# Altium schematic symbol library ic.SchLib: 21 symbols
Pins are listed as number, name and electrical type; pins without a type are passive.

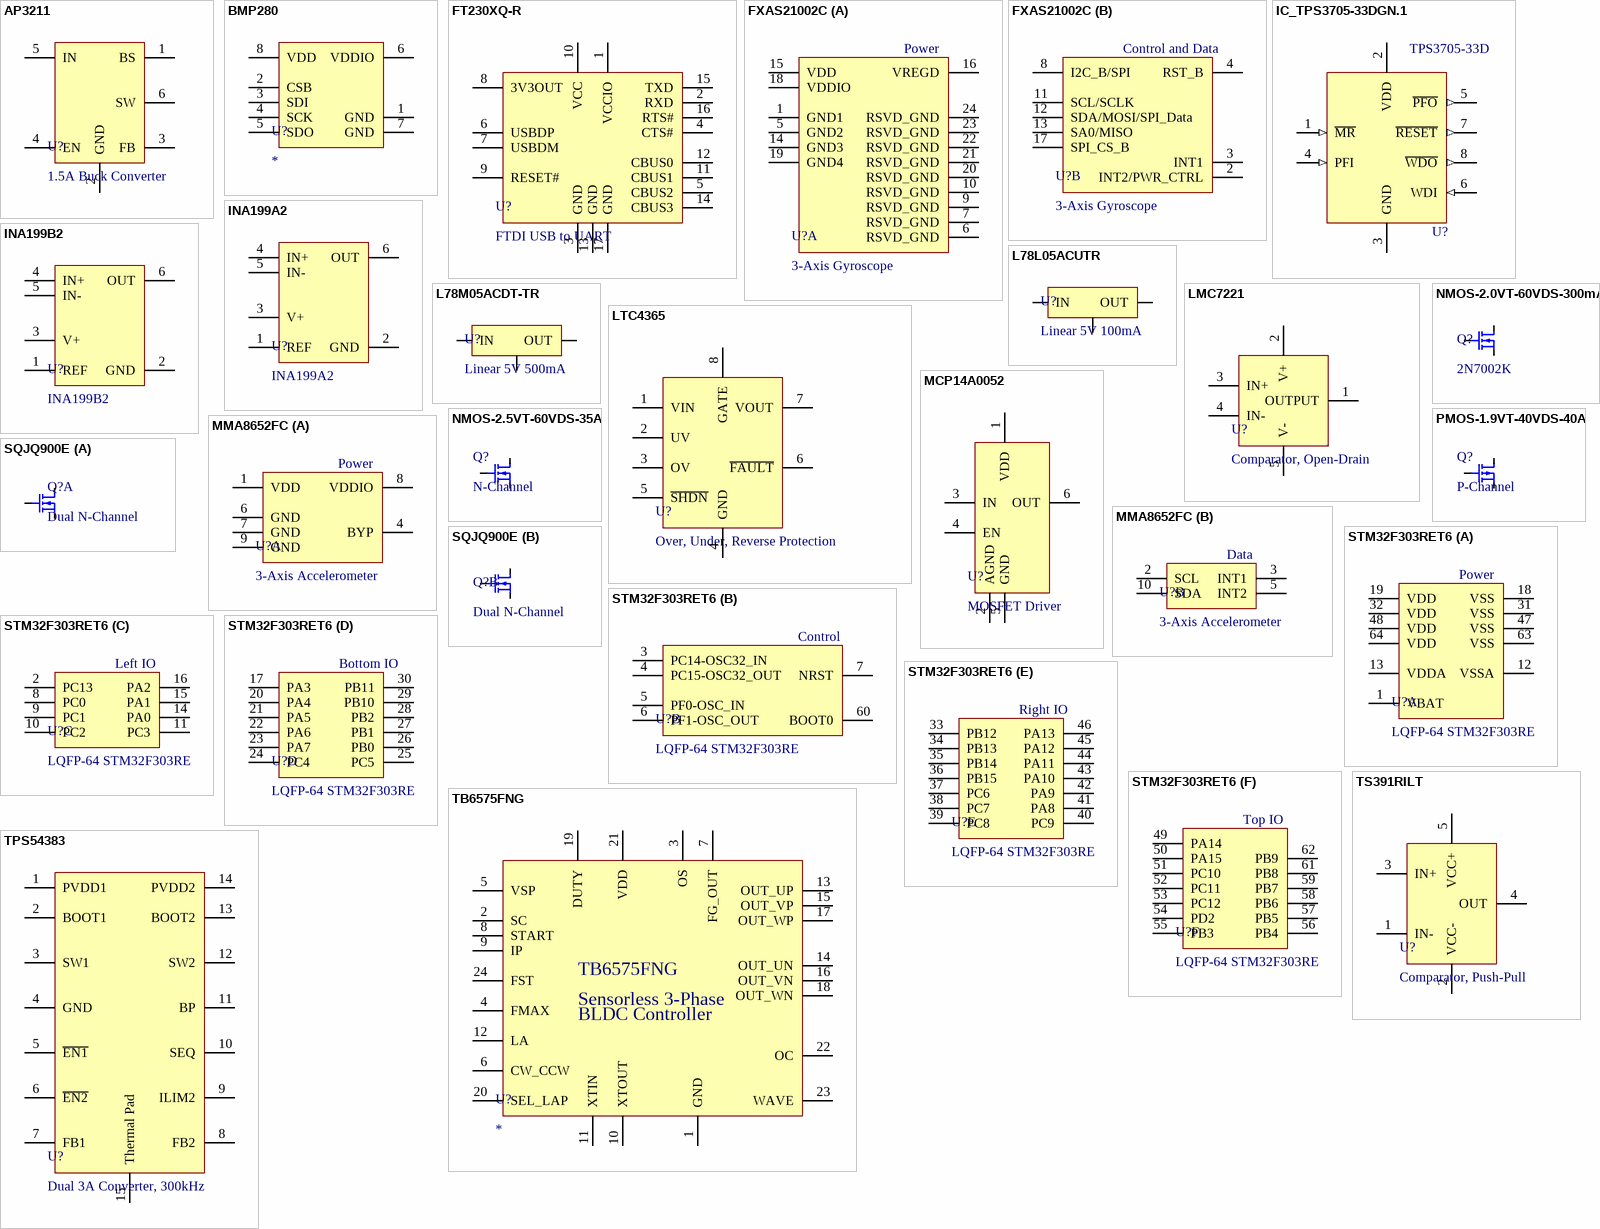
[diagram p0: symbols AP3211 to TS391RILT]

## AP3211
designator U?, comment 1.5A Buck Converter
1.4 MHz, 1.5A DC-DC Buck Converter; Supplier 1: Digi-Key; Supplier Part Number 1: AP3211KTR-G1DIDKR-ND
footprint SOT-23-6 (SOT23, 6-Leads, Body 2.90x2.70mm, Pitch 1.00mm, IPC Medium Density)
pins: 1 BS, 2 GND, 3 FB, 4 EN, 5 IN, 6 SW

## BMP280
designator U?
Digital Pressure Sensor; Supplier 1: Digi-Key; Supplier Part Number 1: 828-1064-6-ND; ComponentLink1Description: Datasheet; ComponentLink1URL: https://ae-bst.resource.bosch.com/media/_tech/media/datasheets/BST-BMP280-DS001-19.pdf
footprint LGA8 (Digital Pressure Sensor)
pins: 1 GND, 2 CSB, 3 SDI, 4 SCK, 5 SDO, 6 VDDIO, 7 GND, 8 VDD

## FT230XQ-R
designator U?, comment FTDI USB to UART
Supplier 1: Digi-Key; Supplier Part Number 1: 768-1130-6-ND; ComponentLink1Description: Datasheet; ComponentLink1URL: https://www.ftdichip.com/Support/Documents/DataSheets/ICs/DS_FT230X.pdf
footprint QFN16-0.65 (QFN, 16-Leads, Body 4.00x4.00mm, Pitch 0.65mm, Thermal Pad 2.08x2.08mm, IPC Medium Density)
pins: 1 VCCIO, 2 RXD, 3 GND, 4 CTS#, 5 CBUS2, 6 USBDP, 7 USBDM, 8 3V3OUT, 9 RESET#, 10 VCC, 11 CBUS1, 12 CBUS0, 13 GND, 14 CBUS3, 15 TXD, 16 RTS#, 17 GND

## FXAS21002C
designator U?, comment 3-Axis Gyroscope
3-Axis Digital Angular Rate Gyroscope; Supplier 1: Digi-Key; Supplier Part Number 1: FXAS21002CQR1CT-ND; ComponentLink1Description: Datasheet; ComponentLink1URL: http://cache.freescale.com/files/sensors/doc/data_sheet/FXAS21002.pdf
footprint QFN24 (QFN, 24-Leads, Body 4.00x4.00mm, Pitch 0.50mm, IPC Medium Density)
part A pins: 1 GND1, 5 GND2, 6 RSVD_GND, 7 RSVD_GND, 9 RSVD_GND, 10 RSVD_GND, 14 GND3, 15 VDD, 16 VREGD, 18 VDDIO, 19 GND4, 20 RSVD_GND, 21 RSVD_GND, 22 RSVD_GND, 23 RSVD_GND, 24 RSVD_GND
part B pins: 2 INT2/PWR_CTRL, 3 INT1, 4 RST_B, 8 I2C_B/SPI, 11 SCL/SCLK, 12 SDA/MOSI/SPI_Data, 13 SA0/MISO, 17 SPI_CS_B
part A text: Power
part B text: Control and Data

## IC_TPS3705-33DGN.1
designator U?  Manufacturer Part Number: TPS3705-33D
IC 2.93V PROCESSOR MONITOR 8MSOP; Manufacturer: Texas Instruments; Number of Voltages Monitored: 1; Output: Push-Pull, Totem Pole; Reset: Active Low; Reset Timeout: 140 ms Minimum; Supplier 1: Digi-Key; RoHS: RoHS Compliant; Category: Integrated Circuits (ICs); Stock 1: 1844; Pricing 1: 1=2.04, 10=1.831, 100=1.4718, 500=1.20926, 1000=1.00195, 2500=0.93285, 5000=0.8983, 10000=0.86375 (USD); Packaging: Tube; Part Status: Active; Type: Simple Reset/Power-On Reset; Voltage - Threshold: 2.93V; Operating Temperature: -40°C ~ 85°C (TA); Mounting Type: Surface Mount; Package / Case: 8-SOIC (0.154", 3.90mm Width); Supplier Device Package: 8-SOIC; ComponentLink1URL: http://www.ti.com/lit/ds/symlink/tps3705.pdf; ComponentLink1Description: Datasheet; Supplier Part Number 1: 296-2623-5-ND
footprint 8SOIC (SOIC, 8-Leads, Body 4.90x3.90mm, Pitch 1.27mm, IPC Medium Density)
pins: 1 ~{MR} (in), 2 VDD, 3 GND, 4 PFI (in), 5 ~{PFO} (out), 6 WDI (in), 7 ~{RESET} (out), 8 ~{WDO} (out)

## INA199A2
designator U?
50 V/V, Current-Shunt Monitor; ComponentLink1Description: Datasheet; ComponentLink1URL: http://www.ti.com/lit/ds/symlink/ina199.pdf; Supplier 1: Digi-Key; Supplier Part Number 1: 296-27329-6-ND
footprint SC70 (SOT23, 6-Leads, Body 2.00x2.10mm, Pitch 0.65mm, IPC Medium Density)
pins: 1 REF, 2 GND, 3 V+, 4 IN+, 5 IN-, 6 OUT

## INA199B2
designator U?
100 V/V, Current-Shunt Monitor; ComponentLink1Description: Datasheet; ComponentLink1URL: http://www.ti.com/lit/ds/symlink/ina199.pdf; Supplier 1: Digi-Key; Supplier Part Number 1: INA199B2DCKR-ND
footprint SC70 (SOT23, 6-Leads, Body 2.00x2.10mm, Pitch 0.65mm, IPC Medium Density)
pins: 1 REF, 2 GND, 3 V+, 4 IN+, 5 IN-, 6 OUT

## L78L05ACUTR
designator U?, comment Linear 5V 100mA
Linear Regulator, 5V, 100mA; Supplier 1: Digi-Key; ComponentLink1Description: Datasheet; ComponentLink1URL: https://www.st.com/content/ccc/resource/technical/document/datasheet/15/55/e5/aa/23/5b/43/fd/CD00000446.pdf/files/CD00000446.pdf/jcr:content/translations/en.CD00000446.pdf; Supplier Part Number 1: 497-1183-6-ND
footprint SOT-89 (SOT89, 3-Leads, Body 4.50x2.45mm, Pitch 1.50mm, Lead Span 4.1mm, IPC Medium Density)
pins: 1 OUT, 2 GND, 3 IN

## L78M05ACDT-TR
designator U?, comment Linear 5V 500mA
Linear Regulator, 5V, 500mA; Supplier 1: Digi-Key; Supplier Part Number 1: 497-1202-6-ND; ComponentLink1Description: Datasheet; ComponentLink1URL: https://media.digikey.com/pdf/Data%20Sheets/ST%20Microelectronics%20PDFS/L78MxxAB,AC%20.pdf
footprint DPAK (D-PAK, 3-Pads, Body 6.20x6.66mm (max), IPC Medium Density)
pins: 1 IN, 2 GND, 3 OUT

## LMC7221
designator U?, comment Comparator, Open-Drain
Supplier 1: Digi-Key; ComponentLink1Description: Datasheet; ComponentLink1URL: http://www.ti.com/lit/ds/symlink/lmc7221.pdf; Supplier Part Number 1: LMC7221BIM5X/NOPBDKR-ND
footprint SOT-23-5 (SOT23, 5-Leads, Body 2.90x2.80mm, Pitch 0.95mm, IPC Medium Density)
pins: 1 OUTPUT, 2 V+, 3 IN+, 4 IN-, 5 V-

## LTC4365
designator U?, comment Over, Under, Reverse Protection
Overvoltage, Undervoltage and Reverse Supply Protection Controller; Supplier 1: Digi-Key; Supplier Part Number 1: LTC4365CTS8#TRMPBFDKR-ND; ComponentLink1Description: Datasheet; ComponentLink1URL: https://www.analog.com/media/en/technical-documentation/data-sheets/4365fa.pdf
footprint SOT-23-8 (TSOP, 8-Leads, Body 2.90x1.63mm, Pitch 0.65mm, IPC Medium Density)
pins: 1 VIN, 2 UV, 3 OV, 4 GND, 5 ~{SHDN}, 6 ~{FAULT}, 7 VOUT, 8 GATE

## MCP14A0052
designator U?, comment MOSFET Driver
0.5A MOSFET Driver; Supplier 1: Digi-Key; Supplier Part Number 1: MCP14A0052T-E/CHDKR-ND; ComponentLink1Description: Datasheet; ComponentLink1URL: http://ww1.microchip.com/downloads/en/DeviceDoc/20005369A.pdf
footprint SOT-23-6 (SOT23, 6-Leads, Body 2.90x2.70mm, Pitch 1.00mm, IPC Medium Density)
pins: 1 VDD, 2 AGND, 3 IN, 4 EN, 5 GND, 6 OUT

## MMA8652FC
designator U?, comment 3-Axis Accelerometer
3-Axis, 12-bit Digital Accelerometer, I2C 400kHz; ComponentLink1Description: Datasheet; ComponentLink1URL: https://media.digikey.com/pdf/Data%20Sheets/NXP%20PDFs/MMA8652FC.pdf; Supplier 1: Digi-Key; Supplier Part Number 1: MMA8652FCR1DKR-ND
footprint SON10 (SON, 10-Leads, Body 2.00x2.00mm, Pitch 0.40mm, IPC Medium Density)
part A pins: 1 VDD, 4 BYP, 6 GND, 7 GND, 8 VDDIO, 9 GND
part B pins: 2 SCL, 3 INT1, 5 INT2, 10 SDA
part A text: Power
part B text: Data

## NMOS-2.0VT-60VDS-300mA
designator Q?, comment 2N7002K
N-Channel, SOT-23; ComponentLink1Description: Datasheet; ComponentLink1URL: https://www.rohm.com/datasheet/RE1C002UN/re1c002untcl-e; Supplier 1: Digi-Key; Supplier Part Number 1: 2N7002K-T1-E3DKR-ND
footprint SC-89 (SOT23, 3-Leads, Body 1.60x1.60mm, Pitch 0.50mm, IPC Medium Density)
pins: 1 G, 2 S, 3 D

## NMOS-2.5VT-60VDS-35A
designator Q?, comment N-Channel
D-PAK, N-Channel MOSFET; Supplier 1: Digi-Key; Supplier Part Number 1: 497-7965-6-ND; ComponentLink1Description: Datasheet; ComponentLink1URL: https://www.st.com/content/ccc/resource/technical/document/datasheet/48/eb/5d/41/e2/c9/48/f2/CD00002363.pdf/files/CD00002363.pdf/jcr:content/translations/en.CD00002363.pdf
footprint DPAK (D-PAK, 3-Pads, Body 6.20x6.66mm (max), IPC Medium Density)
pins: 1 G, 2 D, 3 S

## PMOS-1.9VT-40VDS-40A
designator Q?, comment P-Channel
D-PAK, P-Channel MOSFET; Supplier 1: Digi-Key; Supplier Part Number 1: 785-1351-6-ND; ComponentLink1Description: Datasheet; ComponentLink1URL: http://aosmd.com/res/data_sheets/AOD4189.pdf
footprint DPAK (D-PAK, 3-Pads, Body 6.20x6.66mm (max), IPC Medium Density)
pins: 1 G, 2 D, 3 S

## SQJQ900E
designator Q?, comment Dual N-Channel
Dual N-Channel 40V 100A; Supplier 1: Digi-Key; Supplier Part Number 1: SQJQ900E-T1_GE3DKR-ND; ComponentLink1Description: Datasheet; ComponentLink1URL: http://www.vishay.com/docs/62796/sqjq900e.pdf
footprint PowerPAK 8x8L
part A pins: D1, G1, S1
part B pins: D2, G2, S2

## STM32F303RET6
designator U?, comment LQFP-64 STM32F303RE
ARM Cortex-M4 32-bit MCU+FPU; Supplier 1: Digi-Key; ComponentLink1Description: NUCLEO-F303RE; ComponentLink1URL: https://www.st.com/content/st_com/en/products/evaluation-tools/product-evaluation-tools/mcu-eval-tools/stm32-mcu-eval-tools/stm32-mcu-nucleo/nucleo-f303re.html; ComponentLink2Description: MBED; ComponentLink2URL: https://os.mbed.com/platforms/ST-Nucleo-F303RE/; ComponentLink3Description: Datasheet; ComponentLink3URL: https://www.st.com/content/ccc/resource/technical/document/datasheet/2c/6f/d7/64/1f/a3/4f/c9/DM00118585.pdf/files/DM00118585.pdf/jcr:content/translations/en.DM00118585.pdf; Supplier Part Number 1: 497-15163-ND; ComponentLink4Description: Reference Manual; ComponentLink4URL: https://www.st.com/content/ccc/resource/technical/document/reference_manual/4a/19/6e/18/9d/92/43/32/DM00043574.pdf/files/DM00043574.pdf/jcr:content/translations/en.DM00043574.pdf; ComponentLink5Description: Hardware Development; ComponentLink5URL: https://www.st.com/content/ccc/resource/technical/document/application_note/31/14/f4/9d/d3/8f/48/2b/DM00070391.pdf/files/DM00070391.pdf/jcr:content/translations/en.DM00070391.pdf
footprint LQFP64 (TSQFP, 64-Leads, Body 10.00x10.00mm, Pitch 0.50mm, IPC Medium Density)
part A pins: 1 VBAT, 12 VSSA, 13 VDDA, 18 VSS, 19 VDD, 31 VSS, 32 VDD, 47 VSS, 48 VDD, 63 VSS, 64 VDD
part B pins: 3 PC14-OSC32_IN, 4 PC15-OSC32_OUT, 5 PF0-OSC_IN, 6 PF1-OSC_OUT, 7 NRST, 60 BOOT0
part C pins: 2 PC13, 8 PC0, 9 PC1, 10 PC2, 11 PC3, 14 PA0, 15 PA1, 16 PA2
part D pins: 17 PA3, 20 PA4, 21 PA5, 22 PA6, 23 PA7, 24 PC4, 25 PC5, 26 PB0, 27 PB1, 28 PB2, 29 PB10, 30 PB11
part E pins: 33 PB12, 34 PB13, 35 PB14, 36 PB15, 37 PC6, 38 PC7, 39 PC8, 40 PC9, 41 PA8, 42 PA9, 43 PA10, 44 PA11, 45 PA12, 46 PA13
part F pins: 49 PA14, 50 PA15, 51 PC10, 52 PC11, 53 PC12, 54 PD2, 55 PB3, 56 PB4, 57 PB5, 58 PB6, 59 PB7, 61 PB8, 62 PB9
part A text: Power
part B text: Control
part C text: Left IO
part D text: Bottom IO
part E text: Right IO
part F text: Top IO

## TB6575FNG
designator U?
Sensorless 3-Phase BLDC Controller; Supplier 1: Digi-Key; Supplier Part Number 1: TB6575FNGC8ELDKR-ND; ComponentLink1Description: Datasheet; ComponentLink1URL: toshiba.semicon-storage.com/info/docget.jsp?did=2162&prodName=TB6575FNG
footprint SSOP24-0.65 (TSOP, 24-Leads, Body 7.70x5.60mm, Pitch 0.65mm, IPC Medium Density)
pins: 1 GND, 2 SC, 3 OS, 4 FMAX, 5 VSP, 6 CW_CCW, 7 FG_OUT, 8 START, 9 IP, 10 XTOUT, 11 XTIN, 12 LA, 13 OUT_UP, 14 OUT_UN, 15 OUT_VP, 16 OUT_VN, 17 OUT_WP, 18 OUT_WN, 19 DUTY, 20 SEL_LAP, 21 VDD, 22 OC, 23 WAVE, 24 FST
text: Sensorless 3-Phase; BLDC Controller

## TPS54383
designator U?, comment Dual 3A Converter, 300kHz
Dual 3A Non-Synchronous Converters with Integrated High-Side MOSFET; ComponentLink1Description: Datasheet; ComponentLink1URL: http://www.ti.com/lit/ds/symlink/tps54386.pdf; Supplier 1: Digi-Key; Supplier Part Number 1: 296-23087-6-ND
footprint 14-HTSSOP (TSOP, 14-Leads, Body 5.00x4.40mm, Pitch 0.65mm, Thermal Pad 2.31x2.46mm, IPC Medium Density)
pins: 1 PVDD1, 2 BOOT1, 3 SW1, 4 GND, 5 ~{EN1}, 6 ~{EN2}, 7 FB1, 8 FB2, 9 ILIM2, 10 SEQ, 11 BP, 12 SW2, 13 BOOT2, 14 PVDD2, 15 Thermal Pad

## TS391RILT
designator U?, comment Comparator, Push-Pull
Supplier 1: Digi-Key; Supplier Part Number 1: 497-11276-6-ND; ComponentLink1Description: Datasheet; ComponentLink1URL: https://www.st.com/content/ccc/resource/technical/document/datasheet/de/4c/b3/3d/64/7d/48/8e/CD00001660.pdf/files/CD00001660.pdf/jcr:content/translations/en.CD00001660.pdf
footprint SOT-23-5 (SOT23, 5-Leads, Body 2.90x2.80mm, Pitch 0.95mm, IPC Medium Density)
pins: 1 IN-, 2 VCC-, 3 IN+, 4 OUT, 5 VCC+